# Altium footprint library NEWHAVENDISPLAY_NHD-2.8-25664UCY2.PcbLib: 1 footprints
Each footprint in its own frame and in the unit in brackets; x right, y up, seen from the top. Pads: shape width x height; smd on the part's side, far side on the other; paste and mask are expansions set on the pad; w line width, h text height; cw(c..) or ccw(c..) is an arc to the next point about the centre after c.
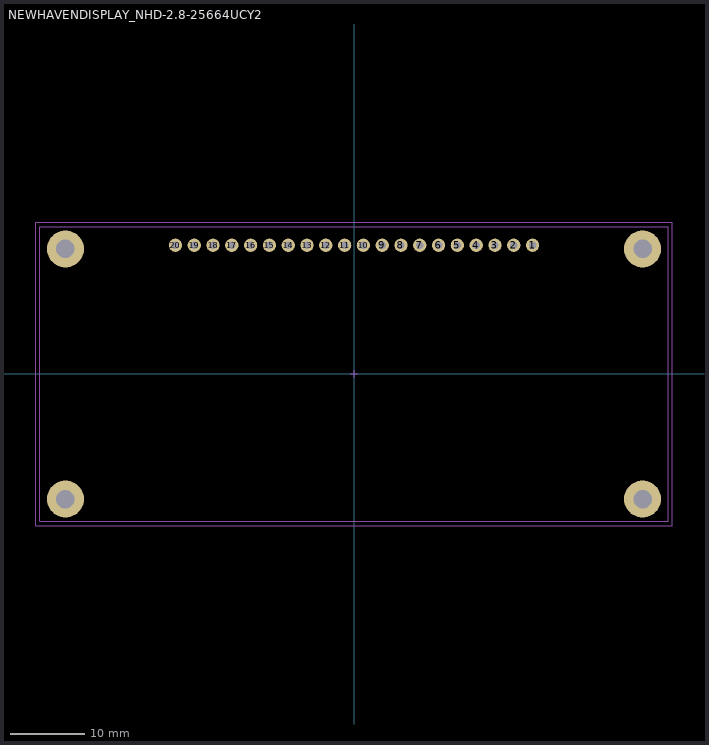
[diagram p0: the footprint, top view; thin cyan lines are the x and y axes]

## NEWHAVENDISPLAY_NHD-2.8-25664UCY2 [mm]
height 6.5
pads (24):
  round 1.8 hole 1: 1(24.13,17.4) 2(21.59,17.4) 3(19.05,17.4) 4(16.51,17.4) 5(13.97,17.4) 6(11.43,17.4) 7(8.89,17.4) 8(6.35,17.4) 9(3.81,17.4) 10(1.27,17.4) 11(-1.27,17.4) 12(-3.81,17.4) 13(-6.35,17.4) 14(-8.89,17.4) 15(-11.43,17.4) 16(-13.97,17.4) 17(-16.51,17.4) 18(-19.05,17.4) 19(-21.59,17.4) 20(-24.13,17.4)
  round 5 hole 2.5: ""(-39,-16.9) ""(-39,16.9) ""(39,-16.9) ""(39,16.9)
Mechanical 13:
  lines w0.1: -42.5,-19.9 42.5,-19.9 42.5,19.9 -42.5,19.9 -42.5,-19.9
Mechanical 15:
  lines w0.05: -43,-20.5 -43,20.5 43,20.5 43,-20.5 -43,-20.5
  lines w0.1: -0.5,0 0.5,0 ; 0,-0.5 0,0.5
3D body "NEWHAVENDISPLAY_NHD-2.8-25664UCx2.STEP": height 6.51, standoff 1.01, extent -42.5,-19.888 42.5,19.912